# Altium footprint library ETHERNET.PcbLib: 6 footprints
Each footprint in its own frame and in the unit in brackets; x right, y up, seen from the top. Pads: shape width x height; smd on the part's side, far side on the other; paste and mask are expansions set on the pad; w line width, h text height; cw(c..) or ccw(c..) is an arc to the next point about the centre after c.
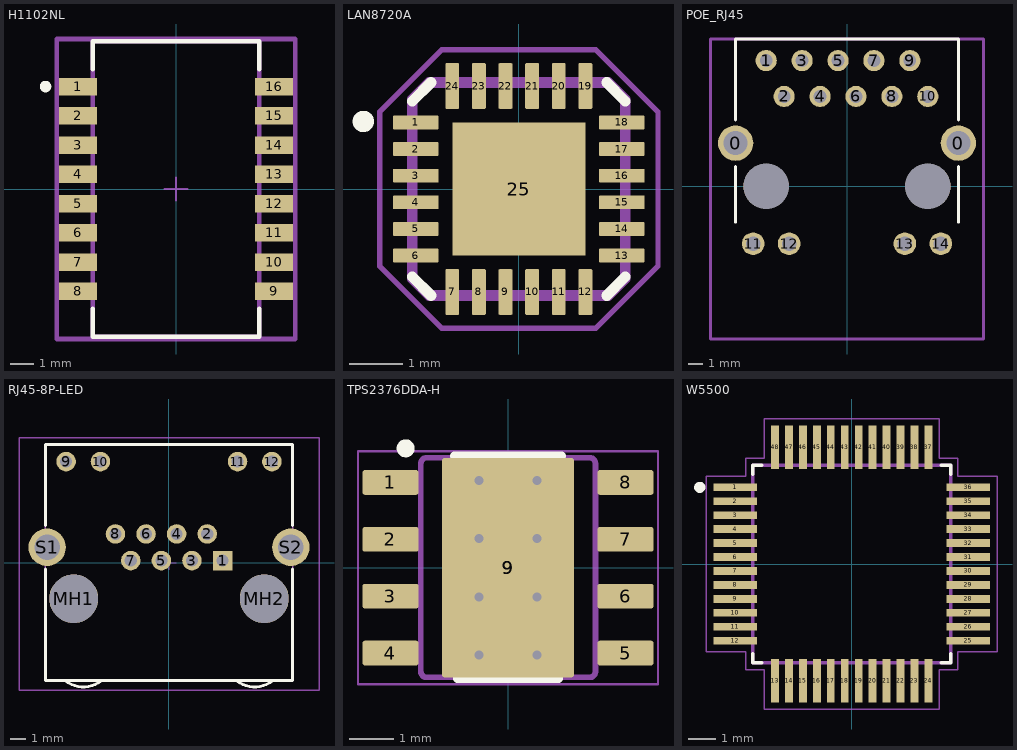
[diagram p0: the footprints below, top view; thin cyan lines are the x and y axes]

## H1102NL [mm]
pads (16):
  rect 1.65x0.76 smd paste+0 mask+0: 1(-4.255,4.445) 2(-4.255,3.175) 3(-4.255,1.905) 4(-4.255,0.635) 5(-4.255,-0.635) 6(-4.255,-1.905) 7(-4.255,-3.175) 8(-4.255,-4.445) 9(4.255,-4.445) 10(4.255,-3.175) 11(4.255,-1.905) 12(4.255,-0.635) 13(4.255,0.635) 14(4.255,1.905) 15(4.255,3.175) 16(4.255,4.445)
Top Overlay:
  circle w0.25: c-5.67,4.45 r0.125
  lines w0.2: -3.62,-5.2 -3.62,-6.415 3.62,-6.415 3.62,-5.2 ; -3.62,5.2 -3.62,6.415 3.62,6.415 3.62,5.2
Top Assembly:
  lines w0.2: -5.18,-6.515 5.18,-6.515 5.18,6.515 -5.18,6.515 -5.18,-6.515
Top 3D Body:
  lines w0.2: -3.62,-6.415 3.62,-6.415 3.62,6.415 -3.62,6.415 -3.62,-6.415
Top Courtyard:
  lines w0.2: -5.18,-6.515 5.18,-6.515 5.18,6.515 -5.18,6.515 -5.18,-6.515
Top Component Center:
  lines w0.1: -0.5,0 0.5,0 ; 0,-0.5 0,0.5
3D body "Trans_Pulse_Electronics_Corporation_H1102NL_eec.STEP": height 0.25, standoff 0, extent -5.18,-6.515 5.18,6.515

## LAN8720A [mm] "Ethernet Transceivers 1.6V ~ 3.6V IEEE 802.3, 10/100 Base-T/TX PHY RMII QFN-24 Ethernet ICs ROHS"
pads (25):
  rrect18% 0.86x0.26 smd: 1(-1.935,1.25) 2(-1.935,0.75) 3(-1.935,0.25) 4(-1.935,-0.25) 5(-1.935,-0.75) 6(-1.935,-1.25) 13(1.935,-1.25) 14(1.935,-0.75) 15(1.935,-0.25) 16(1.935,0.25) 17(1.935,0.75) 18(1.935,1.25)
  rrect18% 0.26x0.86 smd: 7(-1.25,-1.935) 8(-0.75,-1.935) 9(-0.25,-1.935) 10(0.25,-1.935) 11(0.75,-1.935) 12(1.25,-1.935) 19(1.25,1.935) 20(0.75,1.935) 21(0.25,1.935) 22(-0.25,1.935) 23(-0.75,1.935) 24(-1.25,1.935)
  rect 2.5x2.5 smd paste-2: 25(0,0)
Top Overlay:
  circle w0.2: c-2.921,1.27 r0.1
  lines w0.2: -2,-1.65 -1.65,-2 ; -2,1.65 -1.65,2 ; 1.65,-2 2,-1.65 ; 1.65,2 2,1.65
Top 3D Body:
  circle w0.1: c-2.195,1.26 r0.05
  lines w0.2: -2,-1.683 -2,1.683 -1.683,2 1.683,2 2,1.683 2,-1.683 1.683,-2 -1.683,-2 -2,-1.683
Top Courtyard:
  lines w0.1: -2.615,-1.449 -2.615,1.449 -1.449,2.615 1.449,2.615 2.615,1.449 2.615,-1.449 1.449,-2.615 -1.449,-2.615 -2.615,-1.449
3D body "step_temp.STEP": height 0.95, standoff -0.05, extent -2,-2 2,2

## POE_RJ45 [mm] "10/100 Base-T Tab Down Yellow/Green Led 1 Port POE RJ45"
pads (18):
  round 2.5 hole 1.7: 0(-7.875,3.05) 0(7.875,3.05)
  round 1.5 hole 0.9: 1(-5.715,8.89) 2(-4.445,6.35) 3(-3.175,8.89) 4(-1.905,6.35) 5(-0.635,8.89) 6(0.635,6.35) 7(1.905,8.89) 8(3.175,6.35) 9(4.445,8.89) 10(5.715,6.35)
  round 1.6 hole 1.02: 11(-6.63,-4.06) 12(-4.09,-4.06) 13(4.09,-4.06) 14(6.63,-4.06)
  round 3.2 hole 3.2: ""(-5.715,0) ""(5.715,0)
Top Overlay:
  lines w0.2: -7.875,4.699 -7.875,10.414 7.875,10.414 7.875,4.699 ; -7.874,-2.54 -7.874,1.397 ; 7.874,-2.54 7.874,1.397
Top Courtyard:
  lines w0.2: -9.652,-10.795 -9.652,10.414 9.652,10.414 9.652,-10.795 -9.652,-10.795
3D body "LPJ0284GDNL.STEP": height 15.35, standoff -3.6, extent -9.614,-10.79 9.614,10.46

## RJ45-8P-LED [mm] "R-RJ45R08P-C000"
pads (16):
  rect 1.3x1.3 hole 0.8: 1(3.57,0.129)
  round 1.3 hole 0.8: 2(2.55,1.909) 3(1.53,0.129) 4(0.51,1.909) 5(-0.51,0.129) 6(-1.53,1.909) 7(-2.55,0.129) 8(-3.57,1.909) 9(-6.86,6.729) 10(-4.57,6.729) 11(4.57,6.729) 12(6.86,6.729)
  round 3.25 hole 3.25 unplated: MH1(-6.35,-2.411) MH2(6.35,-2.411)
  round 2.5 hole 1.7: S1(-8.125,1.019) S2(8.125,1.019)
Top Overlay:
  lines w0.2: -8.25,-0.431 -8.25,-7.871 8.25,-7.871 8.25,-0.431 ; -8.25,2.469 -8.25,7.879 8.25,7.879 8.25,2.469 ; -6.918,-7.87 ccw(c-5.71,-6.347) -4.502,-7.87 ; 4.503,-7.87 ccw(c5.71,-6.347) 6.918,-7.87
Top 3D Body:
  lines w0.1: -6.918,-7.87 ccw(c-5.71,-6.347) -4.502,-7.87 ; 4.503,-7.87 ccw(c5.71,-6.347) 6.918,-7.87 ; -8.25,-7.871 -8.25,7.879 8.25,7.879 8.25,-7.871 -8.25,-7.871
Top Courtyard:
  lines w0.05: -0.5,0.004 0.5,0.004 ; 0,-0.496 0,0.504
  lines w0.1: -10,-8.516 10,-8.516 10,8.324 -10,8.324 -10,-8.516
3D body "R-RJ45R08P-C000.STEP": height 13.5, standoff -3.31, extent -8.35,-8.318 8.35,8.12

## TPS2376DDA-H [mm]
pads (11):
  rrect18% 1.25x0.55 smd: 1(-2.625,1.905) 2(-2.625,0.635) 3(-2.625,-0.635) 4(-2.625,-1.905) 5(2.625,-1.905) 6(2.625,-0.635) 7(2.625,0.635) 8(2.625,1.905)
  rrect4% 2.49x3 on Top Solder: 9(0,0)
  rrect4% 2.49x3 on Top Paste: 9(0,0)
  rrect4% 2.95x4.9 smd paste-1.5 mask-1.5: 9(0,0)
via -0.65,0.65 diameter 0.5 hole 0.2
via 0.65,0.65 diameter 0.5 hole 0.2
via -0.65,-0.65 diameter 0.5 hole 0.2
via 0.65,-0.65 diameter 0.5 hole 0.2
via -0.65,-1.95 diameter 0.5 hole 0.2
via 0.65,-1.95 diameter 0.5 hole 0.2
via -0.65,1.95 diameter 0.5 hole 0.2
via 0.65,1.95 diameter 0.5 hole 0.2
Top Overlay:
  circle w0.2: c-2.286,2.667 r0.1
  lines w0.2: -1.2,2.5 1.2,2.5 ; -1.125,-2.475 1.125,-2.475
Top Assembly:
  lines w0.127: -1.946,-2.321 ccw(c-1.819,-2.32) -1.82,-2.447 ; -1.946,-2.321 -1.946,-2.32 -1.946,2.329 ; -1.946,2.33 -1.946,2.329 ; -1.946,2.33 cw(c-1.819,2.329) -1.82,2.456 ; -1.819,-2.447 1.826,-2.447 1.827,-2.447 ccw(c1.826,-2.32) 1.953,-2.321 1.953,-2.32 1.953,2.329 ; -1.82,-2.447 -1.819,-2.447 ; -1.82,2.456 -1.819,2.456 ; -1.819,2.456 1.826,2.456 1.827,2.456 cw(c1.826,2.329) 1.953,2.33 ; 1.953,2.329 1.953,2.33 ; -2.975,-2.091 -2.975,-1.71 -2.614,-1.71 -2.497,-1.71 -2.473,-1.71 -2.144,-1.71 -1.946,-1.71 -1.946,-2.091 -2.144,-2.091 -2.473,-2.091 -2.497,-2.091 -2.614,-2.091 -2.975,-2.091 ; -2.975,-0.821 -2.975,-0.44 -2.614,-0.44 -2.497,-0.44 -2.473,-0.44 -2.144,-0.44 -1.946,-0.44 -1.946,-0.821 -2.144,-0.821 -2.473,-0.821 -2.497,-0.821 -2.614,-0.821 -2.975,-0.821 ; -2.975,0.449 -2.975,0.83 -2.614,0.83 -2.497,0.83 -2.473,0.83 -2.144,0.83 -1.946,0.83 -1.946,0.449 -2.144,0.449 -2.473,0.449 -2.497,0.449 -2.614,0.449 -2.975,0.449 ; -2.975,1.719 -2.975,2.1 -2.614,2.1 -2.497,2.1 -2.473,2.1 -2.144,2.1 -1.946,2.1 -1.946,1.719 -2.144,1.719 -2.473,1.719 -2.497,1.719 -2.614,1.719 -2.975,1.719 ; -0.632,1.16 ccw(c-0.632,1.478) -0.632,1.795 ccw(c-0.632,1.478) -0.632,1.16 ; 1.953,-2.091 1.953,-1.71 2.15,-1.71 2.479,-1.71 2.503,-1.71 2.621,-1.71 2.981,-1.71 2.981,-2.091 2.621,-2.091 2.503,-2.091 2.479,-2.091 2.15,-2.091 1.953,-2.091 ; 1.953,-0.821 1.953,-0.44 2.15,-0.44 2.479,-0.44 2.503,-0.44 2.621,-0.44 2.981,-0.44 2.981,-0.821 2.621,-0.821 2.503,-0.821 2.479,-0.821 2.15,-0.821 1.953,-0.821 ; 1.953,0.449 1.953,0.83 2.15,0.83 2.479,0.83 2.503,0.83 2.621,0.83 2.981,0.83 2.981,0.449 2.621,0.449 2.503,0.449 2.479,0.449 2.15,0.449 1.953,0.449 ; 1.953,1.719 1.953,2.1 2.15,2.1 2.479,2.1 2.503,2.1 2.621,2.1 2.981,2.1 2.981,1.719 2.621,1.719 2.503,1.719 2.479,1.719 2.15,1.719 1.953,1.719
Top Courtyard:
  lines w0.05: -3.35,-2.6 3.35,-2.6 3.35,2.6 -3.35,2.6 -3.35,-2.6
  lines w0.1: -0.5,0 0.5,0 ; 0,-0.5 0,0.5
3D body "step_temp.STEP": height 1.7, standoff 0, extent -3,-2.45 3,2.45

## W5500 [mm] "Ethernet Controller 10/100 Base-T/TX PHY SPI Interface 48-LQFP (7x7)"
pads (48):
  rect 1.56x0.28 smd: 1(-4.18,2.75) 2(-4.18,2.25) 3(-4.18,1.75) 4(-4.18,1.25) 5(-4.18,0.75) 6(-4.18,0.25) 7(-4.18,-0.25) 8(-4.18,-0.75) 9(-4.18,-1.25) 10(-4.18,-1.75) 11(-4.18,-2.25) 12(-4.18,-2.75) 25(4.18,-2.75) 26(4.18,-2.25) 27(4.18,-1.75) 28(4.18,-1.25) 29(4.18,-0.75) 30(4.18,-0.25) 31(4.18,0.25) 32(4.18,0.75) 33(4.18,1.25) 34(4.18,1.75) 35(4.18,2.25) 36(4.18,2.75)
  rect 0.28x1.56 smd: 13(-2.75,-4.18) 14(-2.25,-4.18) 15(-1.75,-4.18) 16(-1.25,-4.18) 17(-0.75,-4.18) 18(-0.25,-4.18) 19(0.25,-4.18) 20(0.75,-4.18) 21(1.25,-4.18) 22(1.75,-4.18) 23(2.25,-4.18) 24(2.75,-4.18) 37(2.75,4.18) 38(2.25,4.18) 39(1.75,4.18) 40(1.25,4.18) 41(0.75,4.18) 42(0.25,4.18) 43(-0.25,4.18) 44(-0.75,4.18) 45(-1.25,4.18) 46(-1.75,4.18) 47(-2.25,4.18) 48(-2.75,4.18)
Top Overlay:
  circle w0.2: c-5.45,2.75 r0.1
  lines w0.127: -3.55,-3.22 -3.55,-3.55 -3.22,-3.55 ; -3.55,3.22 -3.55,3.55 -3.22,3.55 ; 3.22,-3.55 3.55,-3.55 3.55,-3.22 ; 3.22,3.55 3.55,3.55 3.55,3.22
Top 3D Body:
  lines w0.127: -3.55,-3.55 3.55,-3.55 3.55,3.55 -3.55,3.55 -3.55,-3.55
Top Courtyard:
  lines w0.05: -5.21,-3.14 -3.8,-3.14 -3.8,-3.8 -3.14,-3.8 -3.14,-5.21 3.14,-5.21 3.14,-3.8 3.8,-3.8 3.8,-3.14 5.21,-3.14 5.21,3.14 3.8,3.14 3.8,3.8 3.14,3.8 3.14,5.21 -3.14,5.21 -3.14,3.8 -3.8,3.8 -3.8,3.14 -5.21,3.14 -5.21,-3.14
3D body "step_temp.STEP": height 1.6, standoff 0, extent -4.5,-4.5 4.5,4.5